# Altium footprint library BB-HEADER-P19-P36.PcbLib: 1 footprints
Each footprint in its own frame and in the unit in brackets; x right, y up, seen from the top. Pads: shape width x height; smd on the part's side, far side on the other; paste and mask are expansions set on the pad; w line width, h text height; cw(c..) or ccw(c..) is an arc to the next point about the centre after c.
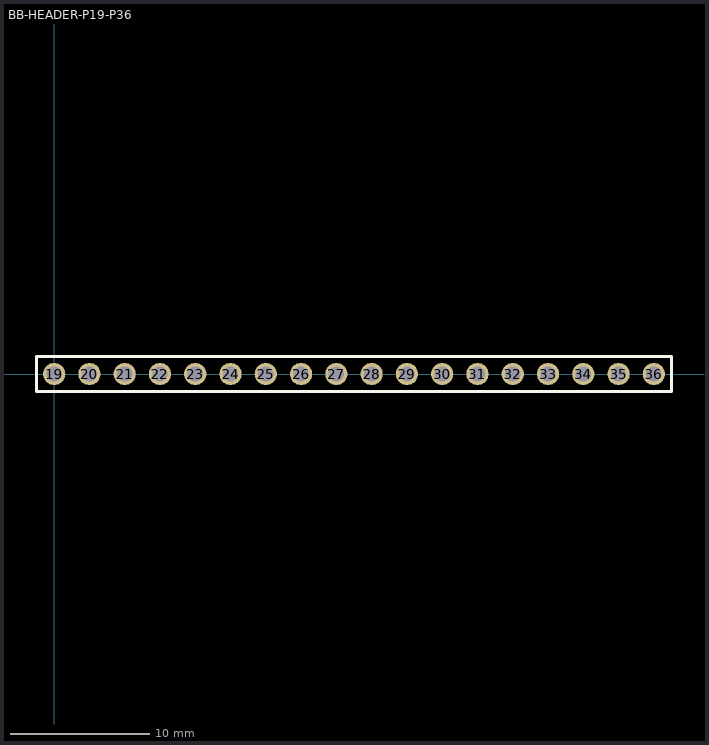
[diagram p0: the footprint, top view; thin cyan lines are the x and y axes]

## BB-HEADER-P19-P36 [mm] "BB Header, Vertical, Male, 0.1\", 2.54mm, P19-P36"
height 11.6
pads (18):
  round 1.6 hole 1.1: 19(0,0) 20(2.54,0) 21(5.08,0) 22(7.62,0) 23(10.16,0) 24(12.7,0) 25(15.24,0) 26(17.78,0) 27(20.32,0) 28(22.86,0) 29(25.4,0) 30(27.94,0) 31(30.48,0) 32(33.02,0) 33(35.56,0) 34(38.1,0) 35(40.64,0) 36(43.18,0)
Top Overlay:
  lines w0.2: -1.27,-1.27 -1.27,1.27 0.635,1.27 44.45,1.27 44.45,-1.27 -1.27,-1.27
Mechanical 13:
  lines w0.1: -1.27,-1.27 -1.27,1.27 44.45,1.27 44.45,-1.27 -1.27,-1.27
Mechanical 15:
  lines w0.1: -1.32,-1.32 44.5,-1.32 44.5,1.32 -1.32,1.32 -1.32,-1.32
3D body: height 8.54, standoff -3, extent -1.27,-1.27 44.45,1.27